# Altium schematic symbol library SCH - MISC - HFBR-15XXZ.SCHLIB: 1 symbol
Pins are listed as number, name and electrical type; pins without a type are passive.

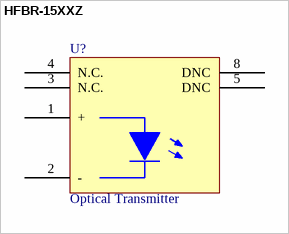
[diagram p0: symbol HFBR-15XXZ]

## HFBR-15XXZ
designator U?, comment Optical Transmitter
Fibre Optic Transmitters, Link Horiz 5MBd Tx RoHS; MPN: HFBR-1521Z; MF: Broadcom/Avago; Wavelength: 660 nm; Foreward Current: 60 mA; Supply Voltage: 5V; Created: 2019_04_09_Kreppel; Data Rate: 5 MBd; Supplier 1: Mouser; Supplier 2: Digi-Key; Supplier Part Number 1: 630-HFBR-1521Z; Supplier Part Number 2: 516-2043-ND
footprint HFBRx5XX
pins: 1 + "Anode", 2 - "Cathode", 3 N.C. "Not Connected", 4 N.C. "Not Connected", 5 DNC "Do Not Connect", 8 DNC "Do Not Connect"